# Altium footprint library SOIC254P960X420-4N.PcbLib: 1 footprints
Each footprint in its own frame and in the unit in brackets; x right, y up, seen from the top. Pads: shape width x height; smd on the part's side, far side on the other; paste and mask are expansions set on the pad; w line width, h text height; cw(c..) or ccw(c..) is an arc to the next point about the centre after c.
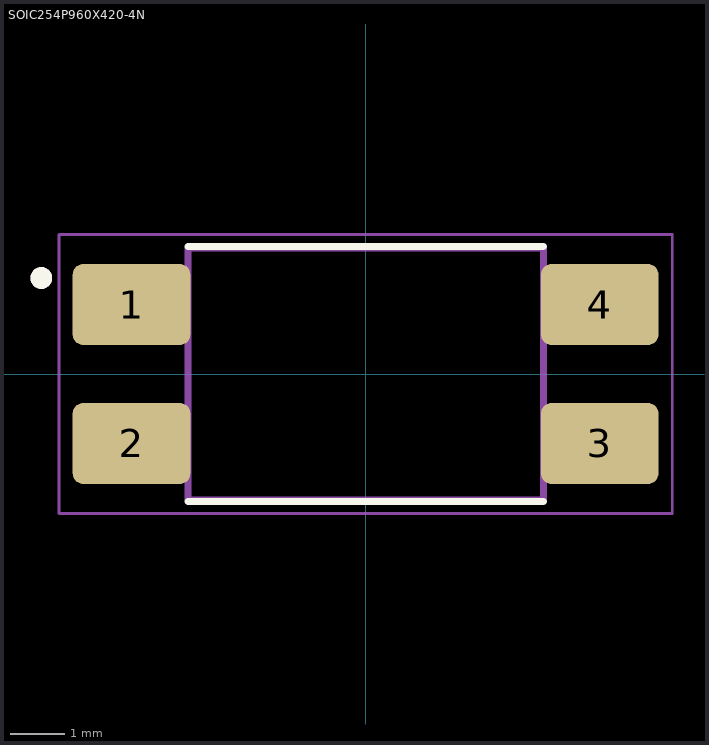
[diagram p0: the footprint, top view; thin cyan lines are the x and y axes]

## SOIC254P960X420-4N [mm]
height 4.2
pads (4):
  rrect25% 2.15x1.48 smd: 1(-4.28,1.27) 2(-4.28,-1.27) 3(4.28,-1.27) 4(4.28,1.27)
Top Overlay:
  circle w0.2: c-5.93,1.755 r0.1
  lines w0.127: -3.25,-2.33 3.25,-2.33 ; -3.25,2.33 3.25,2.33
Mechanical 13:
  circle w0.2: c-5.93,1.755 r0.1
  lines w0.127: -3.25,-2.3 3.25,-2.3 3.25,2.3 -3.25,2.3 -3.25,-2.3
Mechanical 15:
  lines w0.05: -5.605,-2.55 5.605,-2.55 5.605,2.55 -5.605,2.55 -5.605,-2.55
3D body "step_temp.STEP": height 4.2, standoff 0, extent -4.8,-2.3 4.8,2.3